# EAGLE library part TLC77* (library texas)
MICROPOWER SUPPLY VOLTAGE SUPERVISORS Source: www.ti.com/.. slvs087l.pdf
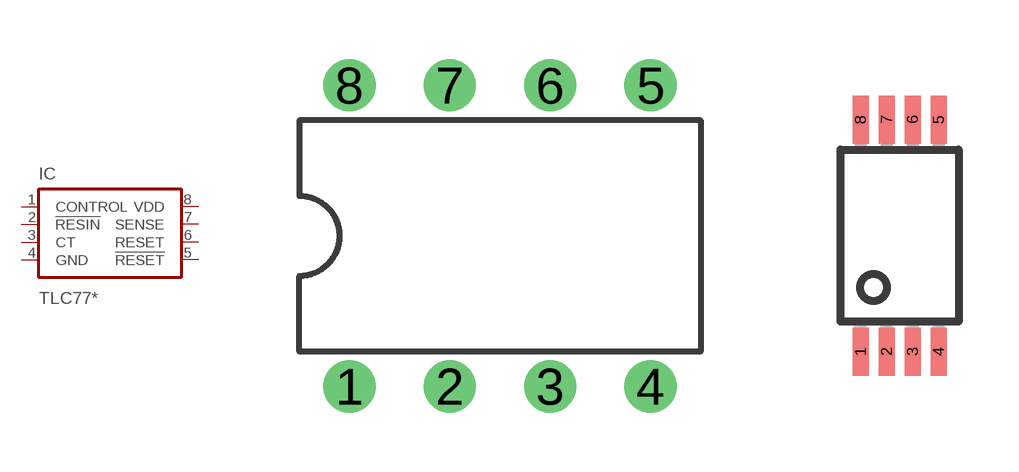
[diagram p27: symbol with the pads of DIL08; footprints DIL08, PW_R-PDSO-G08]

Designator prefix IC

## TLC7701D (OC_FARNELL: unknown; OC_NEWARK: unknown), TLC7703D (MF: TEXAS INSTRUMENT CONNECTORS; MPN: TLC7703QPE4; OC_FARNELL: unknown; OC_NEWARK: 24K5359), TLC7705D (MF: TEXAS INSTRUMENT CONNECTORS; MPN: TLC7705QP; OC_FARNELL: 8454671; OC_NEWARK: 76C7537), TLC7725D (MF: TEXAS INSTRUMENT CONNECTORS; MPN: TLC7725QP; OC_FARNELL: unknown; OC_NEWARK: 76C7546), TLC7733D (MF: TEXAS INSTRUMENT CONNECTORS; MPN: TLC7733QP; OC_FARNELL: 1411422; OC_NEWARK: 76C7553)  [DIL08]
1  CONTROL  in
2  !RESIN  in
3  CT  in
4  GND  pwr
5  !RESET  out
6  RESET  out
7  SENSE  in
8  VDD  pwr

## TLC7701PW (MF: TEXAS INSTRUMENTS; MPN: TLC7701IPWR; OC_FARNELL: 1461368; OC_NEWARK: 76C7519), TLC7703PW (MF: TEXAS INSTRUMENT CONNECTORS; MPN: TLC7703IPW; OC_FARNELL: 1411411; OC_NEWARK: 76C7527), TLC7705PW (MF: TEXAS INSTRUMENT CONNECTORS; MPN: TLC7705QPW; OC_FARNELL: 1411414; OC_NEWARK: 95H4505), TLC7725PW (MPN: TLC7725IPWG4; OC_FARNELL: 1411418; OC_NEWARK: 18M3172), TLC7733PW (MPN: TLC7733QPWG4; OC_FARNELL: 1411423; OC_NEWARK: 54K1054)  [PW_R-PDSO-G08]
Pads as for DIL08

## TLC7701FK (OC_FARNELL: unknown; OC_NEWARK: unknown), TLC7703FK (OC_FARNELL: unknown; OC_NEWARK: unknown), TLC7705FK (OC_FARNELL: unknown; OC_NEWARK: unknown), TLC7725FK (OC_FARNELL: unknown; OC_NEWARK: unknown), TLC7733FK (OC_FARNELL: unknown; OC_NEWARK: unknown)  [PLCC20]
1  CONTROL  in
5  !RESIN  in
7  CT  in
10  GND  pwr
12  !RESET  out
15  RESET  out
17  SENSE  in
20  VDD  pwr

## TLC7701P (MF: TEXAS INSTRUMENT CONNECTORS; MPN: TLC7701IP; OC_FARNELL: 1411405; OC_NEWARK: 76C7517), TLC7703P (MF: TEXAS INSTRUMENT CONNECTORS; MPN: TLC7703QP; OC_FARNELL: 1287644; OC_NEWARK: 76C7531), TLC7705P (MF: TEXAS INSTRUMENT CONNECTORS; MPN: TLC7705IP; OC_FARNELL: 1510448; OC_NEWARK: 35K1227), TLC7725P (MF: TEXAS INSTRUMENT CONNECTORS; MPN: TLC7725IP; OC_FARNELL: unknown; OC_NEWARK: 76C7541), TLC7733P (MF: TEXAS INSTRUMENT CONNECTORS; MPN: TLC7733QP; OC_FARNELL: 1411422; OC_NEWARK: 76C7553)  [DIL08]
Pads as for DIL08

## Footprint DIL08 (pad centres in mm)
Dual In Line Package
drill 0.813 pad 1.27: 1 -3.81,-3.81; 2 -1.27,-3.81; 3 1.27,-3.81; 4 3.81,-3.81; 5 3.81,3.81; 6 1.27,3.81; 7 -1.27,3.81; 8 -3.81,3.81

## Footprint PW_R-PDSO-G08 (pad centres in mm)
PLASTIC SMALL-OUTLINE PACKAGE, SO 8 JEDEC MO-153, PW Type Source: www.ti.com/.. slvs087l.pdf
smd 0.4 x 1.2: 1 -0.975,-2.9; 2 -0.325,-2.9; 3 0.325,-2.9; 4 0.975,-2.9; 5 0.975,2.9; 6 0.325,2.9; 7 -0.325,2.9; 8 -0.975,2.9

## Footprint PLCC20 (pad centres in mm)
Plastic Leaded Chip Carrier
smd 0.6 x 2.2: 1 0,4.3; 2 -1.27,4.3; 3 -2.54,4.3; 9 -2.54,-4.3; 10 -1.27,-4.3; 11 0,-4.3; 12 1.27,-4.3; 13 2.54,-4.3; 19 2.54,4.3; 20 1.27,4.3
smd 2.2 x 0.6: 4 -4.3,2.54; 5 -4.3,1.27; 6 -4.3,0; 7 -4.3,-1.27; 8 -4.3,-2.54; 14 4.3,-2.54; 15 4.3,-1.27; 16 4.3,0; 17 4.3,1.27; 18 4.3,2.54